# Altium schematic symbol library IC_Texas_Instruments_AM4376BZDN100_eec.SchLib: 1 symbol
Pins are listed as number, name and electrical type; pins without a type are passive.

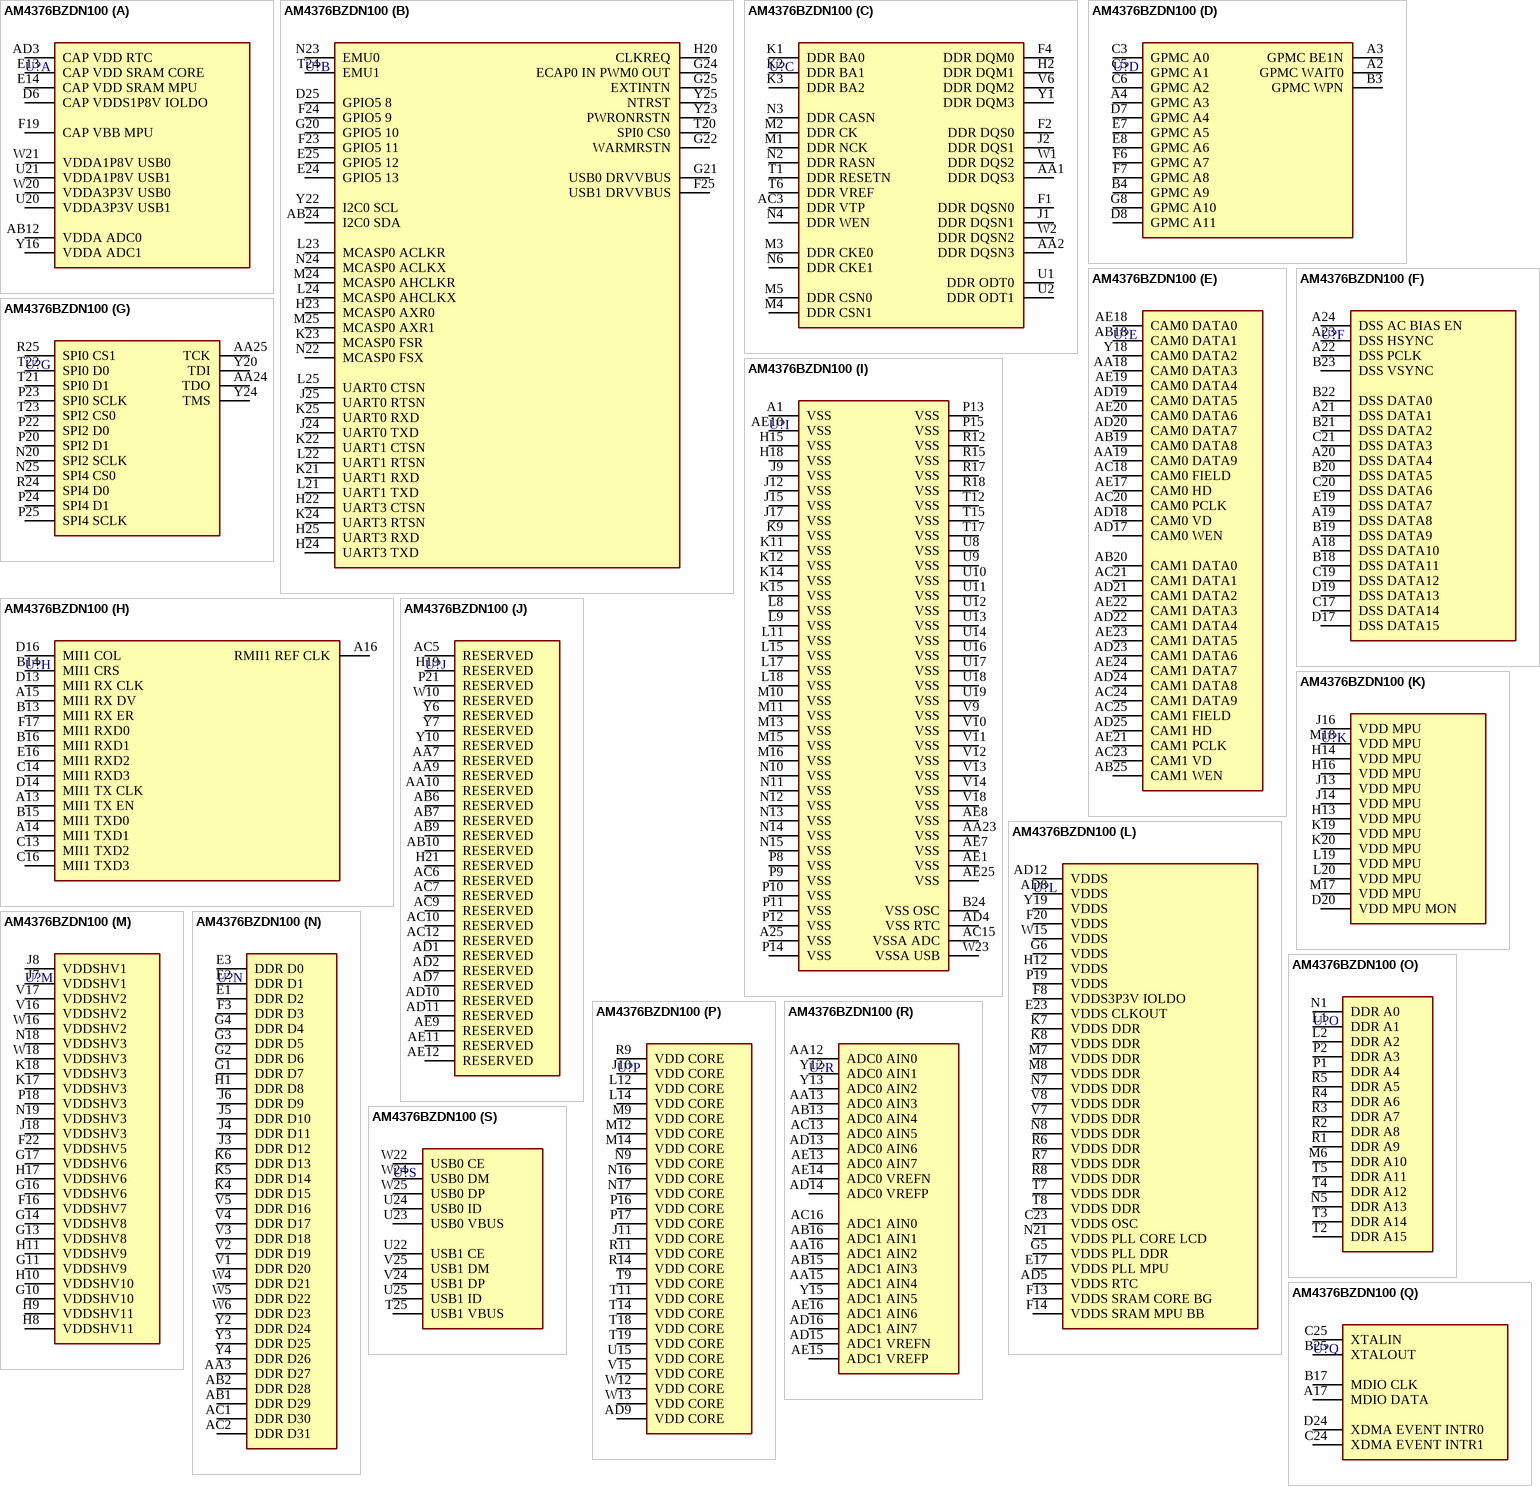
[diagram p0: symbol AM4376BZDN100]

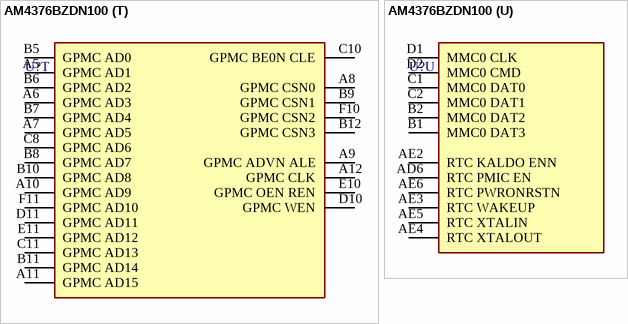
[diagram p1: symbol AM4376BZDN100]

## AM4376BZDN100
designator U?  (value not drawn)
part A pins: AB12 VDDA ADC0, AD3 CAP VDD RTC, D6 CAP VDDS1P8V IOLDO, E13 CAP VDD SRAM CORE, E14 CAP VDD SRAM MPU, F19 CAP VBB MPU, U20 VDDA3P3V USB1, U21 VDDA1P8V USB1, W20 VDDA3P3V USB0, W21 VDDA1P8V USB0, Y16 VDDA ADC1
part B pins: AB24 I2C0 SDA, D25 GPIO5 8, E24 GPIO5 13, E25 GPIO5 12, F23 GPIO5 11, F24 GPIO5 9, F25 USB1 DRVVBUS, G20 GPIO5 10, G21 USB0 DRVVBUS, G22 WARMRSTN, G24 ECAP0 IN PWM0 OUT, G25 EXTINTN, H20 CLKREQ, H22 UART3 CTSN, H23 MCASP0 AXR0, H24 UART3 TXD, H25 UART3 RXD, J24 UART0 TXD, J25 UART0 RTSN, K21 UART1 RXD, K22 UART1 CTSN, K23 MCASP0 FSR, K24 UART3 RTSN, K25 UART0 RXD, L21 UART1 TXD, L22 UART1 RTSN, L23 MCASP0 ACLKR, L24 MCASP0 AHCLKX, L25 UART0 CTSN, M24 MCASP0 AHCLKR, M25 MCASP0 AXR1, N22 MCASP0 FSX, N23 EMU0, N24 MCASP0 ACLKX, T20 SPI0 CS0, T24 EMU1, Y22 I2C0 SCL, Y23 PWRONRSTN, Y25 NTRST
part C pins: AA1 DDR DQS3, AA2 DDR DQSN3, AC3 DDR VTP, F1 DDR DQSN0, F2 DDR DQS0, F4 DDR DQM0, H2 DDR DQM1, J1 DDR DQSN1, J2 DDR DQS1, K1 DDR BA0, K2 DDR BA1, K3 DDR BA2, M1 DDR NCK, M2 DDR CK, M3 DDR CKE0, M4 DDR CSN1, M5 DDR CSN0, N2 DDR RASN, N3 DDR CASN, N4 DDR WEN, N6 DDR CKE1, T1 DDR RESETN, T6 DDR VREF, U1 DDR ODT0, U2 DDR ODT1, V6 DDR DQM2, W1 DDR DQS2, W2 DDR DQSN2, Y1 DDR DQM3
part D pins: A2 GPMC WAIT0, A3 GPMC BE1N, A4 GPMC A3, B3 GPMC WPN, B4 GPMC A9, C3 GPMC A0, C5 GPMC A1, C6 GPMC A2, D7 GPMC A4, D8 GPMC A11, E7 GPMC A5, E8 GPMC A6, F6 GPMC A7, F7 GPMC A8, G8 GPMC A10
part E pins: AA18 CAM0 DATA3, AA19 CAM0 DATA9, AB18 CAM0 DATA1, AB19 CAM0 DATA8, AB20 CAM1 DATA0, AB25 CAM1 WEN, AC18 CAM0 FIELD, AC20 CAM0 PCLK, AC21 CAM1 DATA1, AC23 CAM1 VD, AC24 CAM1 DATA9, AC25 CAM1 FIELD, AD17 CAM0 WEN, AD18 CAM0 VD, AD19 CAM0 DATA5, AD20 CAM0 DATA7, AD21 CAM1 DATA2, AD22 CAM1 DATA4, AD23 CAM1 DATA6, AD24 CAM1 DATA8, AD25 CAM1 HD, AE17 CAM0 HD, AE18 CAM0 DATA0, AE19 CAM0 DATA4, AE20 CAM0 DATA6, AE21 CAM1 PCLK, AE22 CAM1 DATA3, AE23 CAM1 DATA5, AE24 CAM1 DATA7, Y18 CAM0 DATA2
part F pins: A18 DSS DATA10, A19 DSS DATA8, A20 DSS DATA4, A21 DSS DATA1, A22 DSS PCLK, A23 DSS HSYNC, A24 DSS AC BIAS EN, B18 DSS DATA11, B19 DSS DATA9, B20 DSS DATA5, B21 DSS DATA2, B22 DSS DATA0, B23 DSS VSYNC, C17 DSS DATA14, C19 DSS DATA12, C20 DSS DATA6, C21 DSS DATA3, D17 DSS DATA15, D19 DSS DATA13, E19 DSS DATA7
part G pins: AA24 TDO, AA25 TCK, N20 SPI2 SCLK, N25 SPI4 CS0, P20 SPI2 D1, P22 SPI2 D0, P23 SPI0 SCLK, P24 SPI4 D1, P25 SPI4 SCLK, R24 SPI4 D0, R25 SPI0 CS1, T21 SPI0 D1, T22 SPI0 D0, T23 SPI2 CS0, Y20 TDI, Y24 TMS
part H pins: A13 MII1 TX EN, A14 MII1 TXD1, A15 MII1 RX DV, A16 RMII1 REF CLK, B13 MII1 RX ER, B14 MII1 CRS, B15 MII1 TXD0, B16 MII1 RXD1, C13 MII1 TXD2, C14 MII1 RXD3, C16 MII1 TXD3, D13 MII1 RX CLK, D14 MII1 TX CLK, D16 MII1 COL, E16 MII1 RXD2, F17 MII1 RXD0
part I pins: A1 VSS, A25 VSS, AA23 VSS, AC15 VSSA ADC, AD4 VSS RTC, AE1 VSS, AE7 VSS, AE8 VSS, AE10 VSS, AE25 VSS, B24 VSS OSC, H15 VSS, H18 VSS, J9 VSS, J12 VSS, J15 VSS, J17 VSS, K9 VSS, K11 VSS, K12 VSS, K14 VSS, K15 VSS, L8 VSS, L9 VSS, L11 VSS, L15 VSS, L17 VSS, L18 VSS, M10 VSS, M11 VSS, M13 VSS, M15 VSS, M16 VSS, N10 VSS, N11 VSS, N12 VSS, N13 VSS, N14 VSS, N15 VSS, P8 VSS, P9 VSS, P10 VSS, P11 VSS, P12 VSS, P13 VSS, P14 VSS, P15 VSS, R12 VSS, R15 VSS, R17 VSS, R18 VSS, T12 VSS, T15 VSS, T17 VSS, U8 VSS, U9 VSS, U10 VSS, U11 VSS, U12 VSS, U13 VSS, U14 VSS, U16 VSS, U17 VSS, U18 VSS, U19 VSS, V9 VSS, V10 VSS, V11 VSS, V12 VSS, V13 VSS, V14 VSS, V18 VSS, W23 VSSA USB
part J pins: AA7 RESERVED, AA9 RESERVED, AA10 RESERVED, AB6 RESERVED, AB7 RESERVED, AB9 RESERVED, AB10 RESERVED, AC5 RESERVED, AC6 RESERVED, AC7 RESERVED, AC9 RESERVED, AC10 RESERVED, AC12 RESERVED, AD1 RESERVED, AD2 RESERVED, AD7 RESERVED, AD10 RESERVED, AD11 RESERVED, AE9 RESERVED, AE11 RESERVED, AE12 RESERVED, H19 RESERVED, H21 RESERVED, P21 RESERVED, W10 RESERVED, Y6 RESERVED, Y7 RESERVED, Y10 RESERVED
part K pins: D20 VDD MPU MON, H13 VDD MPU, H14 VDD MPU, H16 VDD MPU, J13 VDD MPU, J14 VDD MPU, J16 VDD MPU, K19 VDD MPU, K20 VDD MPU, L19 VDD MPU, L20 VDD MPU, M17 VDD MPU, M18 VDD MPU
part L pins: AD5 VDDS RTC, AD8 VDDS, AD12 VDDS, C23 VDDS OSC, E17 VDDS PLL MPU, E23 VDDS CLKOUT, F8 VDDS3P3V IOLDO, F13 VDDS SRAM CORE BG, F14 VDDS SRAM MPU BB, F20 VDDS, G5 VDDS PLL DDR, G6 VDDS, H12 VDDS, K7 VDDS DDR, K8 VDDS DDR, M7 VDDS DDR, M8 VDDS DDR, N7 VDDS DDR, N8 VDDS DDR, N21 VDDS PLL CORE LCD, P19 VDDS, R6 VDDS DDR, R7 VDDS DDR, R8 VDDS DDR, T7 VDDS DDR, T8 VDDS DDR, V7 VDDS DDR, V8 VDDS DDR, W15 VDDS, Y19 VDDS
part M pins: F16 VDDSHV7, F22 VDDSHV5, G10 VDDSHV10, G11 VDDSHV9, G13 VDDSHV8, G14 VDDSHV8, G16 VDDSHV6, G17 VDDSHV6, H8 VDDSHV11, H9 VDDSHV11, H10 VDDSHV10, H11 VDDSHV9, H17 VDDSHV6, J7 VDDSHV1, J8 VDDSHV1, J18 VDDSHV3, K17 VDDSHV3, K18 VDDSHV3, N18 VDDSHV3, N19 VDDSHV3, P18 VDDSHV3, V16 VDDSHV2, V17 VDDSHV2, W16 VDDSHV2, W18 VDDSHV3
part N pins: AA3 DDR D27, AB1 DDR D29, AB2 DDR D28, AC1 DDR D30, AC2 DDR D31, E1 DDR D2, E2 DDR D1, E3 DDR D0, F3 DDR D3, G1 DDR D7, G2 DDR D6, G3 DDR D5, G4 DDR D4, H1 DDR D8, J3 DDR D12, J4 DDR D11, J5 DDR D10, J6 DDR D9, K4 DDR D15, K5 DDR D14, K6 DDR D13, V1 DDR D20, V2 DDR D19, V3 DDR D18, V4 DDR D17, V5 DDR D16, W4 DDR D21, W5 DDR D22, W6 DDR D23, Y2 DDR D24, Y3 DDR D25, Y4 DDR D26
part O pins: L1 DDR A1, L2 DDR A2, M6 DDR A10, N1 DDR A0, N5 DDR A13, P1 DDR A4, P2 DDR A3, R1 DDR A9, R2 DDR A8, R3 DDR A7, R4 DDR A6, R5 DDR A5, T2 DDR A15, T3 DDR A14, T4 DDR A12, T5 DDR A11
part P pins: AD9 VDD CORE, J10 VDD CORE, J11 VDD CORE, L12 VDD CORE, L14 VDD CORE, M9 VDD CORE, M12 VDD CORE, M14 VDD CORE, N9 VDD CORE, N16 VDD CORE, N17 VDD CORE, P16 VDD CORE, P17 VDD CORE, R9 VDD CORE, R11 VDD CORE, R14 VDD CORE, T9 VDD CORE, T11 VDD CORE, T14 VDD CORE, T18 VDD CORE, T19 VDD CORE, U15 VDD CORE, V15 VDD CORE, W12 VDD CORE, W13 VDD CORE
part Q pins: A17 MDIO DATA, B17 MDIO CLK, B25 XTALOUT, C24 XDMA EVENT INTR1, C25 XTALIN, D24 XDMA EVENT INTR0
part R pins: AA12 ADC0 AIN0, AA13 ADC0 AIN3, AA15 ADC1 AIN4, AA16 ADC1 AIN2, AB13 ADC0 AIN4, AB15 ADC1 AIN3, AB16 ADC1 AIN1, AC13 ADC0 AIN5, AC16 ADC1 AIN0, AD13 ADC0 AIN6, AD14 ADC0 VREFP, AD15 ADC1 VREFN, AD16 ADC1 AIN7, AE13 ADC0 AIN7, AE14 ADC0 VREFN, AE15 ADC1 VREFP, AE16 ADC1 AIN6, Y12 ADC0 AIN1, Y13 ADC0 AIN2, Y15 ADC1 AIN5
part S pins: T25 USB1 VBUS, U22 USB1 CE, U23 USB0 VBUS, U24 USB0 ID, U25 USB1 ID, V24 USB1 DP, V25 USB1 DM, W22 USB0 CE, W24 USB0 DM, W25 USB0 DP
part T pins: A5 GPMC AD1, A6 GPMC AD3, A7 GPMC AD5, A8 GPMC CSN0, A9 GPMC ADVN ALE, A10 GPMC AD9, A11 GPMC AD15, A12 GPMC CLK, B5 GPMC AD0, B6 GPMC AD2, B7 GPMC AD4, B8 GPMC AD7, B9 GPMC CSN1, B10 GPMC AD8, B11 GPMC AD14, B12 GPMC CSN3, C8 GPMC AD6, C10 GPMC BE0N CLE, C11 GPMC AD13, D10 GPMC WEN, D11 GPMC AD11, E10 GPMC OEN REN, E11 GPMC AD12, F10 GPMC CSN2, F11 GPMC AD10
part U pins: AD6 RTC PMIC EN, AE2 RTC KALDO ENN, AE3 RTC WAKEUP, AE4 RTC XTALOUT, AE5 RTC XTALIN, AE6 RTC PWRONRSTN, B1 MMC0 DAT3, B2 MMC0 DAT2, C1 MMC0 DAT0, C2 MMC0 DAT1, D1 MMC0 CLK, D2 MMC0 CMD